# EAGLE library part IR4427 (library den)
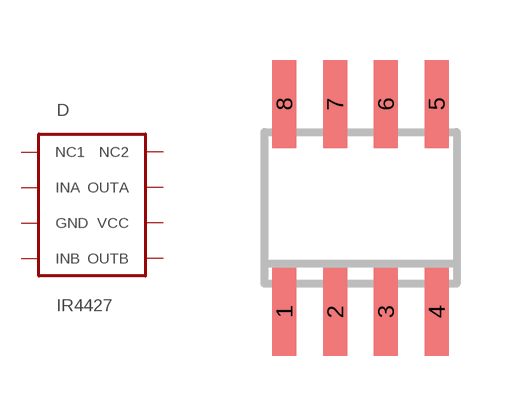
[diagram p7: symbol with the pads of SO-08; footprint SO-08]

Designator prefix D

## IR4427  [SO-08]
1  NC1  pas
2  INA  pas
3  GND  pas
4  INB  pas
5  OUTB  pas
6  VCC  pas
7  OUTA  pas
8  NC2  pas

## Footprint SO-08 (pad centres in mm)
Small Outline Narrow Plastic Gull Wing 150-mil body, package type SN
smd 0.6 x 2.2: 1 -1.905,-2.6; 2 -0.635,-2.6; 3 0.635,-2.6; 4 1.905,-2.6; 5 1.905,2.6; 6 0.635,2.6; 7 -0.635,2.6; 8 -1.905,2.6